# Altium schematic symbol library mp6519gq-z.SchLib: 1 symbol
Pins are listed as number, name and electrical type; pins without a type are passive.

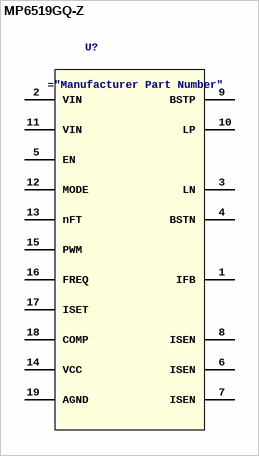
[diagram p0: symbol MP6519GQ-Z]

## MP6519GQ-Z
designator U?
2.5V - 28V, 5A, H-bridge Current Regulator
pins: 1 IFB, 2 VIN, 3 LN, 4 BSTN, 5 EN, 6 ISEN, 7 ISEN, 8 ISEN, 9 BSTP, 10 LP, 11 VIN, 12 MODE, 13 nFT, 14 VCC, 15 PWM, 16 FREQ, 17 ISET, 18 COMP, 19 AGND